# Altium footprint library Pin, SXA-001T-P0.6.PcbLib: 1 footprints
Each footprint in its own frame and in the unit in brackets; x right, y up, seen from the top. Pads: shape width x height; smd on the part's side, far side on the other; paste and mask are expansions set on the pad; w line width, h text height; cw(c..) or ccw(c..) is an arc to the next point about the centre after c.

## Pin, SXA-001T-P0.6 [mm] "Pin, SXA-001T-P0.6"
3D body "JST  - Pin - SXA-001T-P0.6.step": height 2.75, standoff -0.2, extent -1.4,-3.6 1.4,2.9